# Altium footprint library con-lemo.PCBLIB: 34 footprints (part 1 of 3)
Each footprint in its own frame and in the unit in brackets; x right, y up, seen from the top. Pads: shape width x height; smd on the part's side, far side on the other; paste and mask are expansions set on the pad; w line width, h text height; cw(c..) or ccw(c..) is an arc to the next point about the centre after c.
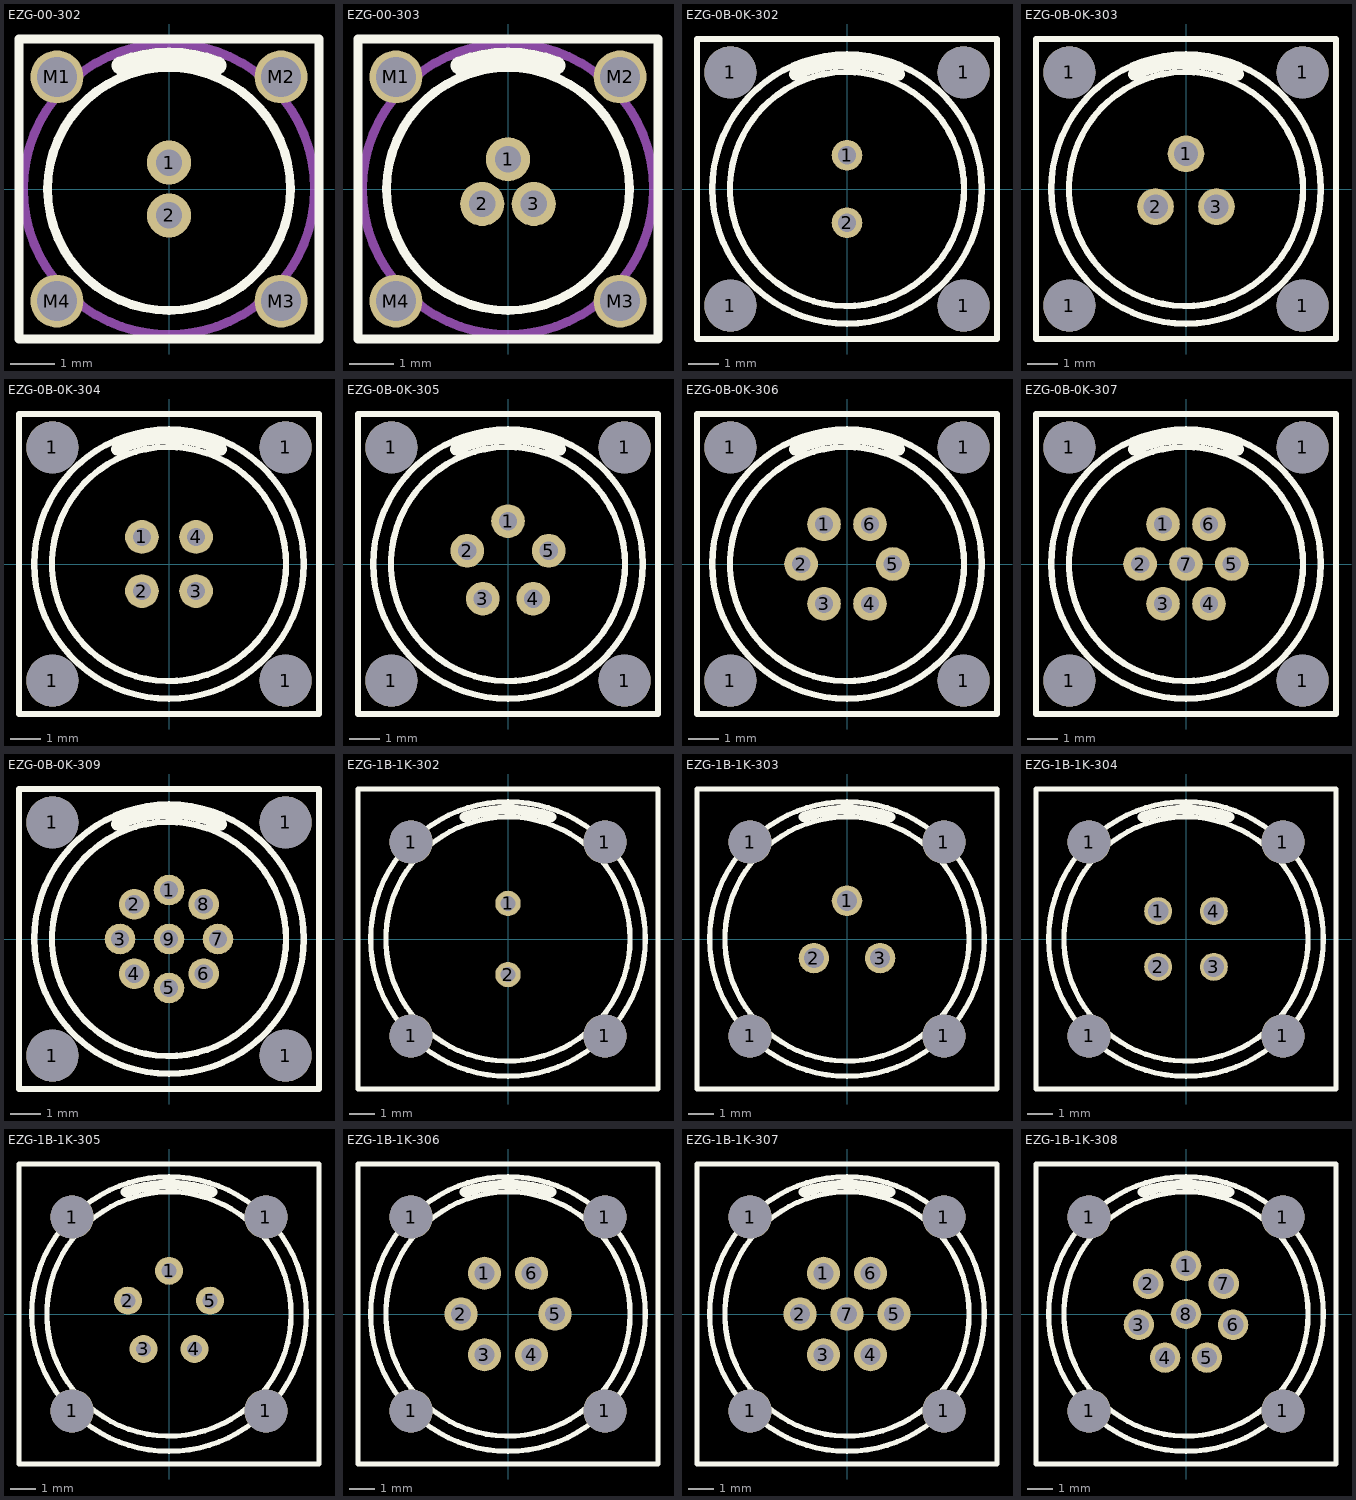
[diagram p0: the footprints below, top view; thin cyan lines are the x and y axes]

## EZG-00-302 [mm]
pads (6):
  round 1 hole 0.6: 1(0,0.6) 2(0,-0.6)
  round 1.2 hole 0.9: M1(-2.54,2.54) M2(2.54,2.54) M3(2.54,-2.54) M4(-2.54,-2.54)
Top Overlay:
  circle w0.203: c0,0 r2.752
  lines w0.203: -3.4,-3.4 3.4,-3.4 3.4,3.4 -3.4,3.4 -3.4,-3.4
  lines w0.4: -1.1,2.8 cw(c0,0) 1.1,2.8
Mechanical 16:
  circle w0.203: c0,0 r3.3
  circle w0.203: c0,0.6 r0.198
  circle w0.203: c0,-0.6 r0.198

## EZG-00-303 [mm]
pads (7):
  round 1 hole 0.6: 1(0,0.675) 2(-0.585,-0.338) 3(0.585,-0.338)
  round 1.2 hole 0.9: M1(-2.54,2.54) M2(2.54,2.54) M3(2.54,-2.54) M4(-2.54,-2.54)
Top Overlay:
  circle w0.203: c0,0 r2.752
  lines w0.203: -3.4,-3.4 3.4,-3.4 3.4,3.4 -3.4,3.4 -3.4,-3.4
  lines w0.4: -1.1,2.8 cw(c0,0) 1.1,2.8
Mechanical 16:
  circle w0.203: c0,0 r3.3
  circle w0.203: c0,0.675 r0.198
  circle w0.203: c-0.585,-0.338 r0.198
  circle w0.203: c0.585,-0.338 r0.198

## EZG-0B-0K-302 [mm]
pads (6):
  round 1.7 hole 1.7: 1(-3.81,-3.81) 1(-3.81,3.81) 1(3.81,-3.81) 1(3.81,3.81)
  round 1 hole 0.6: 1(0,1.1) 2(0,-1.1)
Top Overlay:
  circle w0.203: c0,0 r4.4
  circle w0.203: c0,0 r3.825
  lines w0.203: -4.9,-4.9 4.9,-4.9 4.9,4.9 -4.9,4.9 -4.9,-4.9
  lines w0.4: -1.7,3.75 cw(c0,0.084) 1.7,3.75
Mechanical 16:
  circle w0.203: c0,1.1 r0.198
  circle w0.203: c0,-1.1 r0.198

## EZG-0B-0K-303 [mil]
pads (7):
  round 66.93 hole 66.93: 1(-150,-150) 1(-150,150) 1(150,-150) 1(150,150)
  round 47.24 hole 31.5: 1(0,45.28) 2(-39.21,-22.64) 3(39.21,-22.64)
Top Overlay:
  circle w8: c0,0 r173.23
  circle w8: c0,0 r150.6
  lines w8: -192.91,-192.91 192.91,-192.91 192.91,192.91 -192.91,192.91 -192.91,-192.91
  lines w15.75: -66.93,147.64 cw(c0,3.32) 66.93,147.64
Mechanical 16:
  circle w8: c0,45.28 r11.75
  circle w8: c-39.21,-22.64 r11.75
  circle w8: c39.21,-22.64 r11.75

## EZG-0B-0K-304 [mm]
pads (8):
  round 1.7 hole 1.7: 1(-3.81,-3.81) 1(-3.81,3.81) 1(3.81,-3.81) 1(3.81,3.81)
  round 1.1 hole 0.6: 1(-0.884,0.884) 2(-0.884,-0.884) 3(0.884,-0.884) 4(0.884,0.884)
Top Overlay:
  circle w0.203: c0,0 r4.4
  circle w0.203: c0,0 r3.825
  lines w0.203: -4.9,-4.9 4.9,-4.9 4.9,4.9 -4.9,4.9 -4.9,-4.9
  lines w0.4: -1.7,3.75 cw(c0,0.084) 1.7,3.75
Mechanical 16:
  circle w0.203: c-0.884,0.884 r0.198
  circle w0.203: c-0.884,-0.884 r0.198
  circle w0.203: c0.884,-0.884 r0.198
  circle w0.203: c0.884,0.884 r0.198

## EZG-0B-0K-305 [mm]
pads (9):
  round 1.7 hole 1.7: 1(-3.81,-3.81) 1(-3.81,3.81) 1(3.81,-3.81) 1(3.81,3.81)
  round 1.1 hole 0.6: 1(0,1.4) 2(-1.331,0.433) 3(-0.823,-1.133) 4(0.823,-1.133) 5(1.331,0.433)
Top Overlay:
  circle w0.203: c0,0 r4.4
  circle w0.203: c0,0 r3.825
  lines w0.203: -4.9,-4.9 4.9,-4.9 4.9,4.9 -4.9,4.9 -4.9,-4.9
  lines w0.4: -1.7,3.75 cw(c0,0.084) 1.7,3.75
Mechanical 16:
  circle w0.203: c0,1.4 r0.198
  circle w0.203: c-1.331,0.433 r0.198
  circle w0.203: c-0.823,-1.133 r0.198
  circle w0.203: c0.823,-1.133 r0.198
  circle w0.203: c1.331,0.433 r0.198

## EZG-0B-0K-306 [mm]
pads (10):
  round 1.7 hole 1.7: 1(-3.81,-3.81) 1(-3.81,3.81) 1(3.81,-3.81) 1(3.81,3.81)
  round 1.1 hole 0.6: 1(-0.75,1.299) 2(-1.5,0) 3(-0.75,-1.299) 4(0.75,-1.299) 5(1.5,0) 6(0.75,1.299)
Top Overlay:
  circle w0.203: c0,0 r4.4
  circle w0.203: c0,0 r3.825
  lines w0.203: -4.9,-4.9 4.9,-4.9 4.9,4.9 -4.9,4.9 -4.9,-4.9
  lines w0.4: -1.7,3.75 cw(c0,0.084) 1.7,3.75
Mechanical 16:
  circle w0.203: c-0.75,1.299 r0.198
  circle w0.203: c-1.5,0 r0.198
  circle w0.203: c-0.75,-1.299 r0.198
  circle w0.203: c0.75,-1.299 r0.198
  circle w0.203: c1.5,0 r0.198
  circle w0.203: c0.75,1.299 r0.198

## EZG-0B-0K-307 [mm]
pads (11):
  round 1.7 hole 1.7: 1(-3.81,-3.81) 1(-3.81,3.81) 1(3.81,-3.81) 1(3.81,3.81)
  round 1.1 hole 0.6: 1(-0.75,1.299) 2(-1.5,0) 3(-0.75,-1.299) 4(0.75,-1.299) 5(1.5,0) 6(0.75,1.299) 7(0,0)
Top Overlay:
  circle w0.203: c0,0 r4.4
  circle w0.203: c0,0 r3.825
  lines w0.203: -4.9,-4.9 4.9,-4.9 4.9,4.9 -4.9,4.9 -4.9,-4.9
  lines w0.4: -1.7,3.75 cw(c0,0.084) 1.7,3.75
Mechanical 16:
  circle w0.203: c-0.75,1.299 r0.198
  circle w0.203: c-1.5,0 r0.198
  circle w0.203: c-0.75,-1.299 r0.198
  circle w0.203: c0.75,-1.299 r0.198
  circle w0.203: c1.5,0 r0.198
  circle w0.203: c0.75,1.299 r0.198
  circle w0.203: c0,0 r0.198

## EZG-0B-0K-309 [mm]
pads (13):
  round 1.7 hole 1.7: 1(-3.81,-3.81) 1(-3.81,3.81) 1(3.81,-3.81) 1(3.81,3.81)
  round 1 hole 0.6: 1(0,1.6) 2(-1.131,1.131) 3(-1.6,0) 4(-1.131,-1.131) 5(0,-1.6) 6(1.131,-1.131) 7(1.6,0) 8(1.131,1.131) 9(0,0)
Top Overlay:
  circle w0.203: c0,0 r4.4
  circle w0.203: c0,0 r3.825
  lines w0.203: -4.9,-4.9 4.9,-4.9 4.9,4.9 -4.9,4.9 -4.9,-4.9
  lines w0.4: -1.7,3.75 cw(c0,0.084) 1.7,3.75
Mechanical 16:
  circle w0.203: c0,1.6 r0.198
  circle w0.203: c-1.131,1.131 r0.198
  circle w0.203: c-1.6,0 r0.198
  circle w0.203: c-1.131,-1.131 r0.198
  circle w0.203: c0,-1.6 r0.198
  circle w0.203: c1.131,-1.131 r0.198
  circle w0.203: c1.6,0 r0.198
  circle w0.203: c1.131,1.131 r0.198
  circle w0.203: c0,0 r0.198

## EZG-1B-1K-302 [mm]
pads (6):
  round 1.7 hole 1.7: 1(-3.81,-3.81) 1(-3.81,3.81) 1(3.81,-3.81) 1(3.81,3.81)
  round 1 hole 0.6: 1(0,1.4) 2(0,-1.4)
Top Overlay:
  circle w0.203: c0,0 r5.4
  circle w0.203: c0,0 r4.804
  lines w0.203: -5.9,-5.9 5.9,-5.9 5.9,5.9 -5.9,5.9 -5.9,-5.9
  lines w0.4: -1.7,4.8 cw(c0,0) 1.7,4.8
Mechanical 16:
  circle w0.203: c0,1.4 r0.198
  circle w0.203: c0,-1.4 r0.198

## EZG-1B-1K-303 [mil]
pads (7):
  round 66.93 hole 66.93: 1(-150,-150) 1(-150,150) 1(150,-150) 1(150,150)
  round 47.24 hole 31.5: 1(0,59.06) 2(-51.14,-29.53) 3(51.14,-29.53)
Top Overlay:
  circle w8: c0,0 r212.6
  circle w8: c0,0 r189.14
  lines w8: -232.28,-232.28 232.28,-232.28 232.28,232.28 -232.28,232.28 -232.28,-232.28
  lines w15.75: -66.93,188.98 cw(c0,0) 66.93,188.98
Mechanical 16:
  circle w8: c0,59.06 r11.75
  circle w8: c-51.14,-29.53 r11.75
  circle w8: c51.14,-29.53 r11.75

## EZG-1B-1K-304 [mil]
pads (8):
  round 66.93 hole 66.93: 1(-150,-150) 1(-150,150) 1(150,-150) 1(150,150)
  round 43.31 hole 31.5: 1(-43.15,43.15) 2(-43.15,-43.15) 3(43.15,-43.15) 4(43.15,43.15)
Top Overlay:
  circle w8: c0,0 r212.6
  circle w8: c0,0 r189.14
  lines w8: -232.28,-232.28 232.28,-232.28 232.28,232.28 -232.28,232.28 -232.28,-232.28
  lines w15.75: -66.93,188.98 cw(c0,0) 66.93,188.98
Mechanical 16:
  circle w8: c-43.15,43.15 r11.75
  circle w8: c-43.15,-43.15 r11.75
  circle w8: c43.15,-43.15 r11.75
  circle w8: c43.15,43.15 r11.75

## EZG-1B-1K-305 [mm]
pads (9):
  round 1.7 hole 1.7: 1(-3.81,-3.81) 1(-3.81,3.81) 1(3.81,-3.81) 1(3.81,3.81)
  round 1.1 hole 0.6: 1(0,1.7) 2(-1.617,0.525) 3(-0.999,-1.375) 4(0.999,-1.375) 5(1.617,0.525)
Top Overlay:
  circle w0.203: c0,0 r5.4
  circle w0.203: c0,0 r4.804
  lines w0.203: -5.9,-5.9 5.9,-5.9 5.9,5.9 -5.9,5.9 -5.9,-5.9
  lines w0.4: -1.7,4.8 cw(c0,0) 1.7,4.8
Mechanical 16:
  circle w0.203: c0,1.7 r0.198
  circle w0.203: c-1.617,0.525 r0.198
  circle w0.203: c-0.999,-1.375 r0.198
  circle w0.203: c0.999,-1.375 r0.198
  circle w0.203: c1.617,0.525 r0.198

## EZG-1B-1K-306 [mil]
pads (10):
  round 66.93 hole 66.93: 1(-150,-150) 1(-150,150) 1(150,-150) 1(150,150)
  round 51.18 hole 31.5: 1(-36.41,63.07) 2(-72.83,0) 3(-36.41,-63.07) 4(36.41,-63.07) 5(72.83,0) 6(36.41,63.07)
Top Overlay:
  circle w8: c0,0 r212.6
  circle w8: c0,0 r189.14
  lines w8: -232.28,-232.28 232.28,-232.28 232.28,232.28 -232.28,232.28 -232.28,-232.28
  lines w15.75: -66.93,188.98 cw(c0,0) 66.93,188.98
Mechanical 16:
  circle w8: c-36.41,63.07 r11.75
  circle w8: c-72.83,0 r11.75
  circle w8: c-36.41,-63.07 r11.75
  circle w8: c36.41,-63.07 r11.75
  circle w8: c72.83,0 r11.75
  circle w8: c36.41,63.07 r11.75

## EZG-1B-1K-307 [mil]
pads (11):
  round 66.93 hole 66.93: 1(-150,-150) 1(-150,150) 1(150,-150) 1(150,150)
  round 51.18 hole 31.5: 1(-36.41,63.07) 2(-72.83,0) 3(-36.41,-63.07) 4(36.41,-63.07) 5(72.83,0) 6(36.41,63.07) 7(0,0)
Top Overlay:
  circle w8: c0,0 r212.6
  circle w8: c0,0 r189.14
  lines w8: -232.28,-232.28 232.28,-232.28 232.28,232.28 -232.28,232.28 -232.28,-232.28
  lines w15.75: -66.93,188.98 cw(c0,0) 66.93,188.98
Mechanical 16:
  circle w8: c-36.41,63.07 r11.75
  circle w8: c-72.83,0 r11.75
  circle w8: c-36.41,-63.07 r11.75
  circle w8: c36.41,-63.07 r11.75
  circle w8: c72.83,0 r11.75
  circle w8: c36.41,63.07 r11.75
  circle w8: c0,0 r11.75

## EZG-1B-1K-308 [mil]
pads (12):
  round 66.93 hole 66.93: 1(-150,-150) 1(-150,150) 1(150,-150) 1(150,150)
  round 47.24 hole 31.5: 1(0,74.8) 2(-58.48,46.64) 3(-72.93,-16.65) 4(-32.46,-67.39) 5(32.46,-67.39) 6(72.93,-16.65) 7(58.48,46.64) 8(0,0)
Top Overlay:
  circle w8: c0,0 r212.6
  circle w8: c0,0 r189.14
  lines w8: -232.28,-232.28 232.28,-232.28 232.28,232.28 -232.28,232.28 -232.28,-232.28
  lines w15.75: -66.93,188.98 cw(c0,0) 66.93,188.98
Mechanical 16:
  circle w8: c0,74.8 r11.75
  circle w8: c-58.48,46.64 r11.75
  circle w8: c-72.93,-16.65 r11.75
  circle w8: c-32.46,-67.39 r11.75
  circle w8: c32.46,-67.39 r11.75
  circle w8: c72.93,-16.65 r11.75
  circle w8: c58.48,46.64 r11.75
  circle w8: c0,0 r11.75